# EAGLE library part INA226 (library spv1040)
TI - INA226
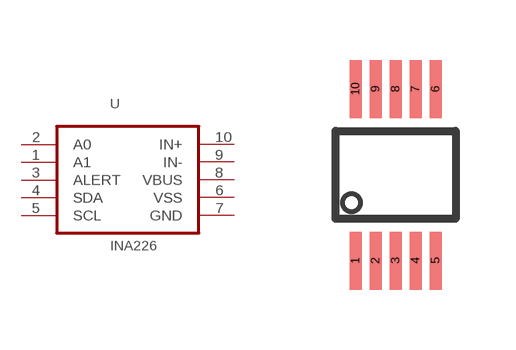
[diagram p1: symbol with the pads of VSSOP-10; footprint VSSOP-10]

Designator prefix -

## INA226  [VSSOP-10]
1  A1  in
2  A0  in
3  ALERT  in
4  SDA  in
5  SCL  in
6  VSS  pwr
7  GND  pwr
8  VBUS  pas
9  IN-  in
10  IN+  in

## Footprint VSSOP-10 (pad centres in mm)
VSSOP-10 (0.5mm pitch) TI - DGS pakackage (S-PDSO-G10)
smd 0.3 x 1.45: 1 -1,-2.15; 2 -0.5,-2.15; 3 0,-2.15; 4 0.5,-2.15; 5 1,-2.15; 6 1,2.15; 7 0.5,2.15; 8 0,2.15; 9 -0.5,2.15; 10 -1,2.15